# EAGLE library part EFM8BB10F8G-A-SOIC16 (library MF_IC_Digital)
Manufacturer Part #: EFM8BB10F8G-A-SOIC16 Manufacturer: Silicon Labs Description: Busy Bee 8-bit Microcontrollers - MCU 8kB/512B RAM 12b ADC
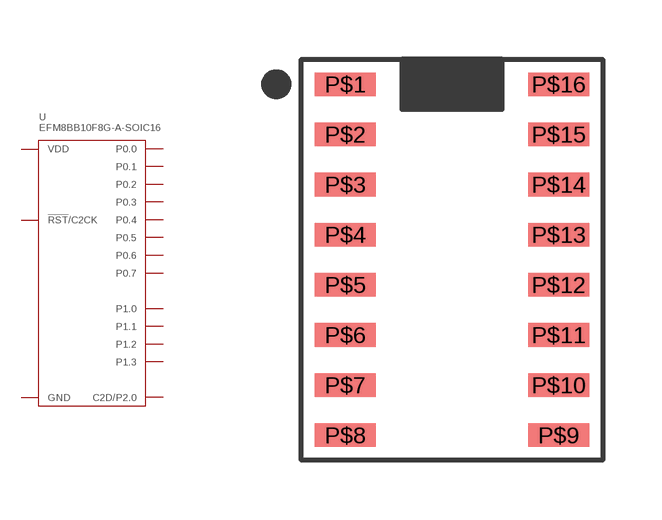
[diagram p12: symbol with the pads of EFM8BB10F8G-A-SOIC16; footprint EFM8BB10F8G-A-SOIC16]

Designator prefix U

## EFM8BB10F8G-A-SOIC16 (HOUSEPART: NO; POPULATE: 1; URL: http://www.silabs.com/products/mcu/8-bit/efm8-busy-bee/Pages/efm8-busy-bee.aspx)  [EFM8BB10F8G-A-SOIC16]
P$1  P0.2
P$2  P0.1
P$3  P0.0
P$4  GND
P$5  VDD
P$6  !RST!/C2CK
P$7  C2D/P2.0
P$8  P1.3
P$9  P1.2
P$10  P1.1
P$11  P1.0
P$12  P0.7
P$13  P0.6
P$14  P0.5
P$15  P0.4
P$16  P0.3

## Footprint EFM8BB10F8G-A-SOIC16 (pad centres in mm)
Description: Silicon Labs Busy Bee SOIC16 Package.
smd 1.55 x 0.6: P$1 -2.7,4.445; P$2 -2.7,3.175; P$3 -2.7,1.905; P$4 -2.7,0.635; P$5 -2.7,-0.635; P$6 -2.7,-1.905; P$7 -2.7,-3.175; P$8 -2.7,-4.445; P$9 2.7,-4.445; P$10 2.7,-3.175; P$11 2.7,-1.905; P$12 2.7,-0.635; P$13 2.7,0.635; P$14 2.7,1.905; P$15 2.7,3.175; P$16 2.7,4.445